# EAGLE library part SM2305_AMPLIFIER (library ModernDevice)
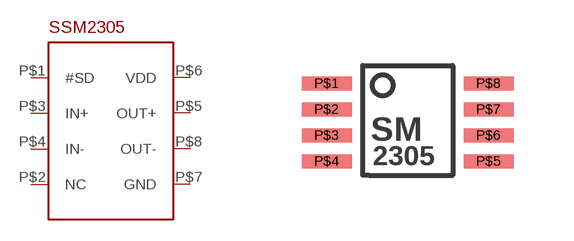
[diagram p5: symbol with the pads of SSM2305_AMPLIFIER; footprint SSM2305_AMPLIFIER]

Designator prefix -

## SM2305_AMPLIFIER  [SSM2305_AMPLIFIER]
P$1  #SD
P$2  NC
P$3  IN+
P$4  IN-
P$5  OUT+
P$6  VDD
P$7  GND
P$8  OUT-

## Footprint SSM2305_AMPLIFIER (pad centres in mm)
smd 1.25 x 0.35: P$1 -2,1.3; P$2 -2,0.65; P$3 -2,0; P$4 -2,-0.65; P$5 2.05,-0.65; P$6 2.05,0; P$7 2.05,0.65; P$8 2.05,1.3